# Altium integrated library Battery.IntLib: 4 symbols
Pins are listed as number, name and electrical type; pins without a type are passive.

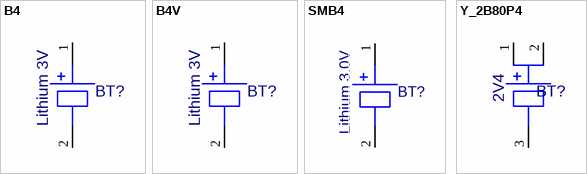
[diagram p0: symbols B4 to Y_2B80P4]

## B4
designator BT?, comment value Lithium 3V  (hidden comment: 60207-0013)
Battery, Lithium 3V; ECAD_Revision: 1; Librarian: US; PartNumber: 60207-0013; HelpURL: K:\ACCELEDA\PDF Spec Files\MISS\; Item: *
footprint BAT_CR2032
pins: 1, 2

## B4V
designator BT?, comment value Lithium 3V  (hidden comment: 60207-0013)
Battery, Lithium 3V; ECAD_Revision: 1; Librarian: US; PartNumber: 60207-0013; HelpURL: K:\ACCELEDA\PDF Spec Files\Battery\bk-5058.pdf; Item: *
footprint BAT_CR2032_V
pins: 1, 2

## SMB4
designator BT?, comment value Lithium 3.0V  (hidden comment: 60207-0013)
Battery, Lithium 3.0V; ECAD_Revision: 1; Librarian: US; PartNumber: 60207-0013; HelpURL: K:\ACCELEDA\PDF Spec Files\MISS\; Item: *; Power Rating: *
footprint SMB2032
pins: 1, 2

## Y_2B80P4
designator BT?, comment value 2V4  (hidden comment: 70646-132)
Battery, Button Cell 2.4V, MimH; ECAD_Revision: 2; Librarian: UK; PartNumber: 70646-132; Item: *
footprint Y_2B80P4 (Yuasa Button Cell 2B80P4, Rev.2)
pins: 1, 2, 3